# EAGLE library part 74S65N (library EW_IC_74_Logic)
4-2-3-2 input and-or-invert gates. Category: Gates Manufacturer: Generic
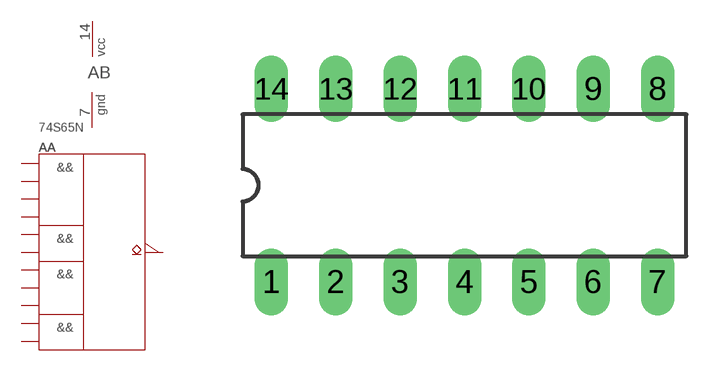
[diagram p270: symbol with the pads of DIL14; footprint DIL14]

Designator prefix A; gates A=7465_S_AND-OR-INVERT_GATE B=PWRN

## 74S65N  [DIL14]
1  A:A  pwr
2  A:E  pwr
3  A:F  pwr
4  A:G  pwr
5  A:H  pwr
6  A:I  pwr
7  B:GND  pwr
8  A:Y  pwr
9  A:J  pwr
10  A:K  pwr
11  A:B  pwr
12  A:C  pwr
13  A:D  pwr
14  B:VCC  pwr

## Footprint DIL14 (pad centres in mm)
SOCKET Dual In Line
drill 0.813 long: 1 -7.62,-3.81; 2 -5.08,-3.81; 3 -2.54,-3.81; 4 0,-3.81; 5 2.54,-3.81; 6 5.08,-3.81; 7 7.62,-3.81; 8 7.62,3.81; 9 5.08,3.81; 10 2.54,3.81; 11 0,3.81; 12 -2.54,3.81; 13 -5.08,3.81; 14 -7.62,3.81